# Altium schematic symbol library INA240A4PWR,TSSOP.Schlib: 1 symbol
Pins are listed as number, name and electrical type; pins without a type are passive.

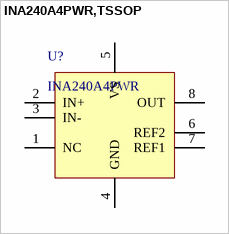
[diagram p0: symbol INA240A4PWR,TSSOP]

## INA240A4PWR,TSSOP
designator U?, comment INA240A4PWR
IC CURR SENSE 1 CIRCUIT 8TSSOP
pins: 1 NC, 2 IN+, 3 IN-, 4 GND, 5 VS, 6 REF2, 7 REF1, 8 OUT